# EAGLE library part 20-29 (library J-CylConn)
Amphenol: 97-3100A-20-29S RECEPTACLE WALL FLANGED 17POS AMPH20-27S 97-3100A-20-29P RECEPTACLE WALL FLANGED 17POS AMPH20-27P 97-3055-120-22002 ADAPTER SHELL SZ20-22 TO 1/2MNPT 97-3055-121-22002 ADAPTER SHELL SZ20-22 TO 1/2FNPT 97-3102A-20-29S RECEPTACLE BOX FLANGED 17POS AMPH20-27S 97-3102A-20-29P RECEPTACLE BOX FLANGED 17POS AMPH20-27P 9760-20 RECEPTICAL FREE HANGING CAP SZ20 97-3106A-20-29P PLUG FREE HANGING 17POS AMPH20-27P 97-3106A-20-29S PLUG FREE HANGING 17POS AMPH20-27S 9760-20P PLUG FREE HANGING CAP SZ20 9767-22-8 SHELL STRAIGHT CABLE CLAMP OD7/16 SZ20-22 9767-22-10 SHELL STRAIGHT CABLE CLAMP OD9/16 SZ20-22 9767-22-12 SHELL STRAIGHT CABLE CLAMP OD11/16 SZ20-22 MS3106F-20-29P is much like 97-3106A-20-29P /w a diff cable clamp and bushing, but its not clear what size cable OD
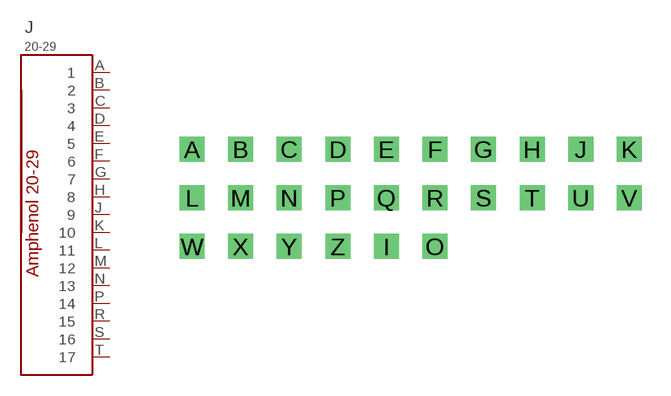
[diagram p2: symbol with the pads of AMPHENOL-97SERIES; footprint AMPHENOL-97SERIES]

Designator prefix J

## 20-29  [AMPHENOL-97SERIES]
A  1
B  2
C  3
D  4
E  5
F  6
G  7
H  8
J  9
K  10
L  11
M  12
N  13
P  14
R  15
S  16
T  17

## Footprint AMPHENOL-97SERIES (pad centres in mm)
Amphenol 97 Series first 26 Pin names are A-Z (watch out some skip O and I)
drill 0.8 square: A -10.16,6.35; B -7.62,6.35; C -5.08,6.35; D -2.54,6.35; E 0,6.35; F 2.54,6.35; G 5.08,6.35; H 7.62,6.35; I 0,1.27; J 10.16,6.35; K 12.7,6.35; L -10.16,3.81; M -7.62,3.81; N -5.08,3.81; O 2.54,1.27; P -2.54,3.81; Q 0,3.81; R 2.54,3.81; S 5.08,3.81; T 7.62,3.81; U 10.16,3.81; V 12.7,3.81; W -10.16,1.27; X -7.62,1.27; Y -5.08,1.27; Z -2.54,1.27